# Altium schematic symbol library rfid.SchLib: 1 symbol
Pins are listed as number, name and electrical type; pins without a type are passive.

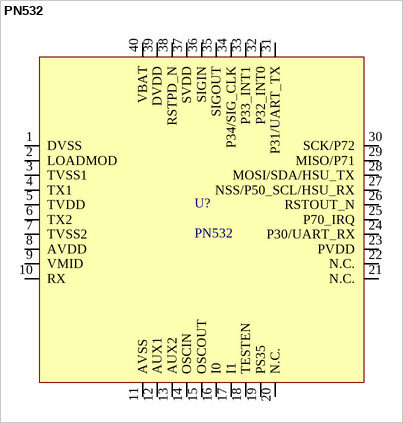
[diagram p0: symbol PN532]

## PN532
designator U?
footprint QFN40G-0.5-6X6MM
pins: 1 DVSS, 2 LOADMOD, 3 TVSS1, 4 TX1, 5 TVDD, 6 TX2, 7 TVSS2, 8 AVDD, 9 VMID, 10 RX, 11 AVSS, 12 AUX1, 13 AUX2, 14 OSCIN, 15 OSCOUT, 16 I0, 17 I1, 18 TESTEN, 19 PS35, 20 N.C., 21 N.C., 22 N.C., 23 PVDD, 24 P30/UART_RX, 25 P70_IRQ, 26 RSTOUT_N, 27 NSS/P50_SCL/HSU_RX, 28 MOSI/SDA/HSU_TX, 29 MISO/P71, 30 SCK/P72, 31 P31/UART_TX, 32 P32_INT0, 33 P33_INT1, 34 P34/SIG_CLK, 35 SIGOUT, 36 SIGIN, 37 SVDD, 38 RSTPD_N, 39 DVDD, 40 VBAT